# Altium footprint library IHLP-2525.PcbLib: 1 footprints
Each footprint in its own frame and in the unit in brackets; x right, y up, seen from the top. Pads: shape width x height; smd on the part's side, far side on the other; paste and mask are expansions set on the pad; w line width, h text height; cw(c..) or ccw(c..) is an arc to the next point about the centre after c.
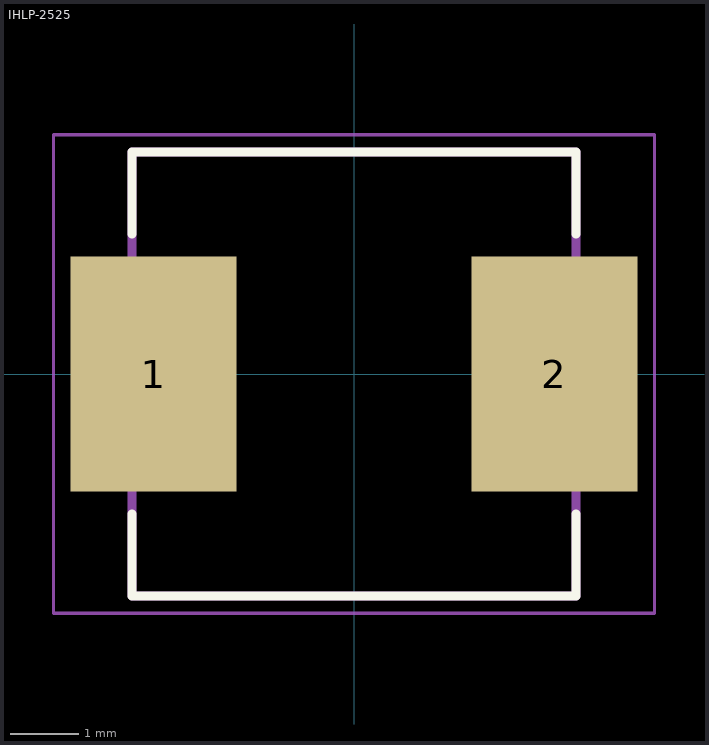
[diagram p0: the footprint, top view; thin cyan lines are the x and y axes]

## IHLP-2525 [mil]
pads (2):
  rect 95x135 smd: 1(-115,0) 2(115,0)
Top Overlay:
  lines w5: -127.36,-80.1 -127.36,-127.36 127.36,-127.36 127.36,-80.1 ; -127.36,80.1 -127.36,127.36 127.36,127.36 127.36,80.1
Mechanical 13:
  lines w5: -127.36,-127.36 127.36,-127.36 127.36,127.36 -127.36,127.36 -127.36,-127.36
Mechanical 15:
  lines w1.97: -172.34,-137.2 172.34,-137.2 172.34,137.2 -172.34,137.2 -172.34,-137.2
3D body "step_temp.STEP": height 118.11, standoff 0, extent -135.04,-127.36 135.04,127.36